# EAGLE library part EPM7128-P160 (library altera)
EPM70128 MAX 7000 family
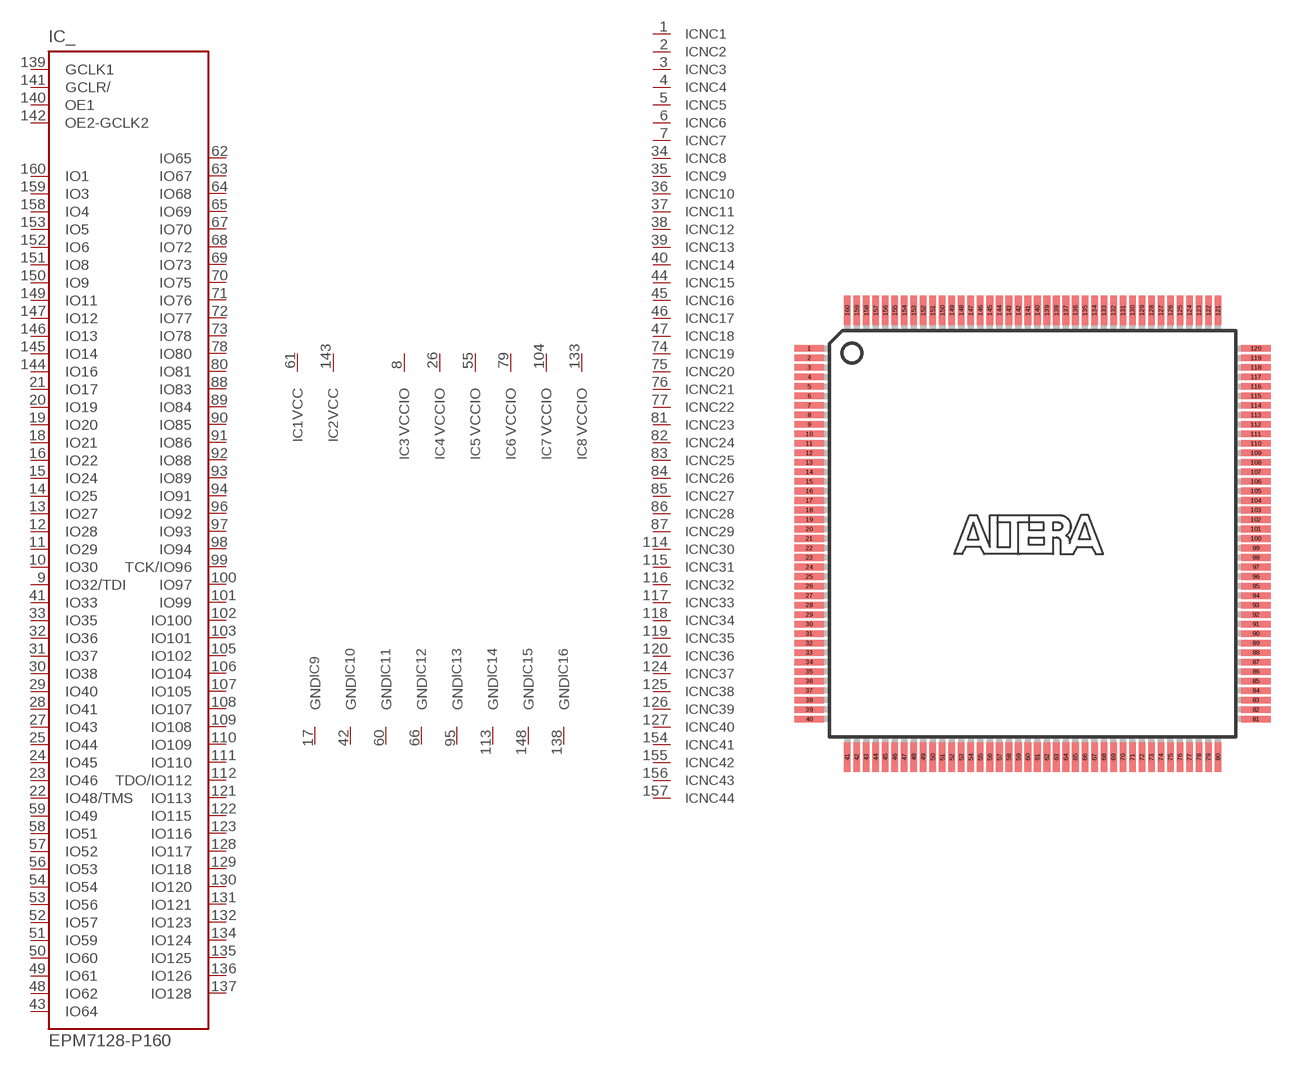
[diagram p11: symbol with the pads of PQFP160; footprint PQFP160]

Designator prefix IC; gates _=EPM7128 NC1=NC NC2=NC NC3=NC NC4=NC NC5=NC NC6=NC NC7=NC NC8=NC NC9=NC NC10=NC NC11=NC NC12=NC NC13=NC NC14=NC NC15=NC NC16=NC NC17=NC NC18=NC NC19=NC NC20=NC NC21=NC NC22=NC NC23=NC NC24=NC NC25=NC NC26=NC NC27=NC NC28=NC NC29=NC NC30=NC NC31=NC NC32=NC NC33=NC NC34=NC NC35=NC NC36=NC NC37=NC NC38=NC NC39=NC NC40=NC NC41=NC NC42=NC NC43=NC NC44=NC 1=VCC 2=VCC 3=VCCIO 4=VCCIO 5=VCCIO 6=VCCIO 7=VCCIO 8=VCCIO 9=GND 10=GND 11=GND 12=GND 13=GND 14=GND 15=GND 16=GND

## EPM7128-P160 (MPN: EPM7128SQC160-10N; OC_FARNELL: 1549435; OC_NEWARK: 51R9760)  [PQFP160]
1  NC1:NC  nc
2  NC2:NC  nc
3  NC3:NC  nc
4  NC4:NC  nc
5  NC5:NC  nc
6  NC6:NC  nc
7  NC7:NC  nc
8  3:VCCIO  pwr
9  _:IO32/TDI
10  _:IO30
11  _:IO29
12  _:IO28
13  _:IO27
14  _:IO25
15  _:IO24
16  _:IO22
17  9:GND  pwr
18  _:IO21
19  _:IO20
20  _:IO19
21  _:IO17
22  _:IO48/TMS
23  _:IO46
24  _:IO45
25  _:IO44
26  4:VCCIO  pwr
27  _:IO43
28  _:IO41
29  _:IO40
30  _:IO38
31  _:IO37
32  _:IO36
33  _:IO35
34  NC8:NC  nc
35  NC9:NC  nc
36  NC10:NC  nc
37  NC11:NC  nc
38  NC12:NC  nc
39  NC13:NC  nc
40  NC14:NC  nc
41  _:IO33
42  10:GND  pwr
43  _:IO64
44  NC15:NC  nc
45  NC16:NC  nc
46  NC17:NC  nc
47  NC18:NC  nc
48  _:IO62
49  _:IO61
50  _:IO60
51  _:IO59
52  _:IO57
53  _:IO56
54  _:IO54
55  5:VCCIO  pwr
56  _:IO53
57  _:IO52
58  _:IO51
59  _:IO49
60  11:GND  pwr
61  1:VCC  pwr
62  _:IO65
63  _:IO67
64  _:IO68
65  _:IO69
66  12:GND  pwr
67  _:IO70
68  _:IO72
69  _:IO73
70  _:IO75
71  _:IO76
72  _:IO77
73  _:IO78
74  NC19:NC  nc
75  NC20:NC  nc
76  NC21:NC  nc
77  NC22:NC  nc
78  _:IO80
79  6:VCCIO  pwr
80  _:IO81
81  NC23:NC  nc
82  NC24:NC  nc
83  NC25:NC  nc
84  NC26:NC  nc
85  NC27:NC  nc
86  NC28:NC  nc
87  NC29:NC  nc
88  _:IO83
89  _:IO84
90  _:IO85
91  _:IO86
92  _:IO88
93  _:IO89
94  _:IO91
95  13:GND  pwr
96  _:IO92
97  _:IO93
98  _:IO94
99  _:TCK/IO96
100  _:IO97
101  _:IO99
102  _:IO100
103  _:IO101
104  7:VCCIO  pwr
105  _:IO102
106  _:IO104
107  _:IO105
108  _:IO107
109  _:IO108
110  _:IO109
111  _:IO110
112  _:TDO/IO112
113  14:GND  pwr
114  NC30:NC  nc
115  NC31:NC  nc
116  NC32:NC  nc
117  NC33:NC  nc
118  NC34:NC  nc
119  NC35:NC  nc
120  NC36:NC  nc
121  _:IO113
122  _:IO115
123  _:IO116
124  NC37:NC  nc
125  NC38:NC  nc
126  NC39:NC  nc
127  NC40:NC  nc
128  _:IO117
129  _:IO118
130  _:IO120
131  _:IO121
132  _:IO123
133  8:VCCIO  pwr
134  _:IO124
135  _:IO125
136  _:IO126
137  _:IO128
138  16:GND  pwr
139  _:GCLK1  in
140  _:OE1  in
141  _:GCLR/  in
142  _:OE2-GCLK2  in
143  2:VCC  pwr
144  _:IO16
145  _:IO14
146  _:IO13
147  _:IO12
148  15:GND  pwr
149  _:IO11
150  _:IO9
151  _:IO8
152  _:IO6
153  _:IO5
154  NC41:NC  nc
155  NC42:NC  nc
156  NC43:NC  nc
157  NC44:NC  nc
158  _:IO4
159  _:IO3
160  _:IO1

## Footprint PQFP160 (pad centres in mm)
Plastic Quad Flat Pack
smd 2 x 0.45: 1 -15.275,12.675; 2 -15.275,12.025; 3 -15.275,11.375; 4 -15.275,10.725; 5 -15.275,10.075; 6 -15.275,9.425; 7 -15.275,8.775; 8 -15.275,8.125; 9 -15.275,7.475; 10 -15.275,6.825; 11 -15.275,6.175; 12 -15.275,5.525; 13 -15.275,4.875; 14 -15.275,4.225; 15 -15.275,3.575; 16 -15.275,2.925; 17 -15.275,2.275; 18 -15.275,1.625; 19 -15.275,0.975; 20 -15.275,0.325; 21 -15.275,-0.325; 22 -15.275,-0.975; 23 -15.275,-1.625; 24 -15.275,-2.275; 25 -15.275,-2.925; 26 -15.275,-3.575; 27 -15.275,-4.225; 28 -15.275,-4.875; 29 -15.275,-5.525; 30 -15.275,-6.175; 31 -15.275,-6.825; 32 -15.275,-7.475; 33 -15.275,-8.125; 34 -15.275,-8.775; 35 -15.275,-9.425; 36 -15.275,-10.075; 37 -15.275,-10.725; 38 -15.275,-11.375; 39 -15.275,-12.025; 40 -15.275,-12.675; 81 15.275,-12.675; 82 15.275,-12.025; 83 15.275,-11.375; 84 15.275,-10.725; 85 15.275,-10.075; 86 15.275,-9.425; 87 15.275,-8.775; 88 15.275,-8.125; 89 15.275,-7.475; 90 15.275,-6.825; 91 15.275,-6.175; 92 15.275,-5.525; 93 15.275,-4.875; 94 15.275,-4.225; 95 15.275,-3.575; 96 15.275,-2.925; 97 15.275,-2.275; 98 15.275,-1.625; 99 15.275,-0.975; 100 15.275,-0.325; 101 15.275,0.325; 102 15.275,0.975; 103 15.275,1.625; 104 15.275,2.275; 105 15.275,2.925; 106 15.275,3.575; 107 15.275,4.225; 108 15.275,4.875; 109 15.275,5.525; 110 15.275,6.175; 111 15.275,6.825; 112 15.275,7.475; 113 15.275,8.125; 114 15.275,8.775; 115 15.275,9.425; 116 15.275,10.075; 117 15.275,10.725; 118 15.275,11.375; 119 15.275,12.025; 120 15.275,12.675
smd 0.45 x 2: 41 -12.675,-15.275; 42 -12.025,-15.275; 43 -11.375,-15.275; 44 -10.725,-15.275; 45 -10.075,-15.275; 46 -9.425,-15.275; 47 -8.775,-15.275; 48 -8.125,-15.275; 49 -7.475,-15.275; 50 -6.825,-15.275; 51 -6.175,-15.275; 52 -5.525,-15.275; 53 -4.875,-15.275; 54 -4.225,-15.275; 55 -3.575,-15.275; 56 -2.925,-15.275; 57 -2.275,-15.275; 58 -1.625,-15.275; 59 -0.975,-15.275; 60 -0.325,-15.275; 61 0.325,-15.275; 62 0.975,-15.275; 63 1.625,-15.275; 64 2.275,-15.275; 65 2.925,-15.275; 66 3.575,-15.275; 67 4.225,-15.275; 68 4.875,-15.275; 69 5.525,-15.275; 70 6.175,-15.275; 71 6.825,-15.275; 72 7.475,-15.275; 73 8.125,-15.275; 74 8.775,-15.275; 75 9.425,-15.275; 76 10.075,-15.275; 77 10.725,-15.275; 78 11.375,-15.275; 79 12.025,-15.275; 80 12.675,-15.275; 121 12.675,15.275; 122 12.025,15.275; 123 11.375,15.275; 124 10.725,15.275; 125 10.075,15.275; 126 9.425,15.275; 127 8.775,15.275; 128 8.125,15.275; 129 7.475,15.275; 130 6.825,15.275; 131 6.175,15.275; 132 5.525,15.275; 133 4.875,15.275; 134 4.225,15.275; 135 3.575,15.275; 136 2.925,15.275; 137 2.275,15.275; 138 1.625,15.275; 139 0.975,15.275; 140 0.325,15.275; 141 -0.325,15.275; 142 -0.975,15.275; 143 -1.625,15.275; 144 -2.275,15.275; 145 -2.925,15.275; 146 -3.575,15.275; 147 -4.225,15.275; 148 -4.875,15.275; 149 -5.525,15.275; 150 -6.175,15.275; 151 -6.825,15.275; 152 -7.475,15.275; 153 -8.125,15.275; 154 -8.775,15.275; 155 -9.425,15.275; 156 -10.075,15.275; 157 -10.725,15.275; 158 -11.375,15.275; 159 -12.025,15.275; 160 -12.675,15.275